# EAGLE library part CATALEXMICROSDBRKOUT (library HermitRetro)
Catalex MicroSD Breakout Board
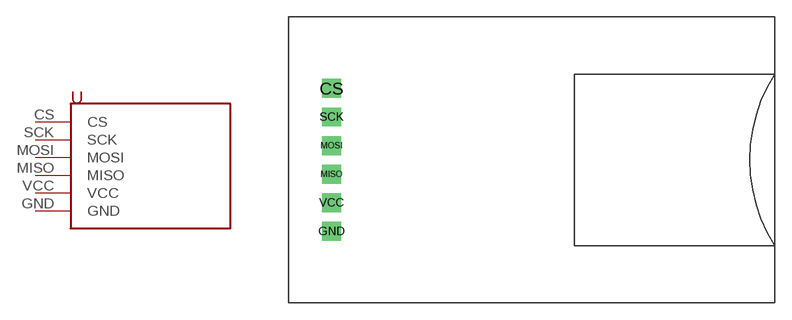
[diagram p10: symbol with the pads of CATALEXMICROSDBRKOUT; footprint CATALEXMICROSDBRKOUT]

Designator prefix -

## CATALEXMICROSDBRKOUT  [CATALEXMICROSDBRKOUT]
CS  CS
GND  GND
MISO  MISO
MOSI  MOSI
SCK  SCK
VCC  VCC

## Footprint CATALEXMICROSDBRKOUT (pad centres in mm)
Catalex MicroSD Breakout Board
drill 1 pad 1.676 square: CS 3.81,19.05; GND 3.81,6.35; MISO 3.81,11.43; MOSI 3.81,13.97; SCK 3.81,16.51; VCC 3.81,8.89